# Altium integrated library 7771.IntLib: 1 symbol
Pins are listed as number, name and electrical type; pins without a type are passive.

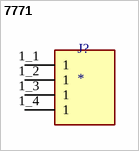
[diagram p0: symbol 7771]

## 7771
designator J?
Screw Terminal;Nickel;15 Amp;Thru-Hole;Vertical;Unassembled;PC;M3 | Keystone Electronics 7771; MP: 7771; SnapEDA_Link: https://www.snapeda.com/parts/7771/Keystone/view-part/?ref=snap; Package: None; Value: *; MF: Keystone Electronics; Check_prices: https://www.snapeda.com/parts/7771/Keystone/view-part/?ref=eda
footprint KEYSTONE_7771
pins: 1_1 1, 1_2 1, 1_3 1, 1_4 1